# Altium footprint library SMP-MSFD-PCE-1.PcbLib: 1 footprints
Each footprint in its own frame and in the unit in brackets; x right, y up, seen from the top. Pads: shape width x height; smd on the part's side, far side on the other; paste and mask are expansions set on the pad; w line width, h text height; cw(c..) or ccw(c..) is an arc to the next point about the centre after c.
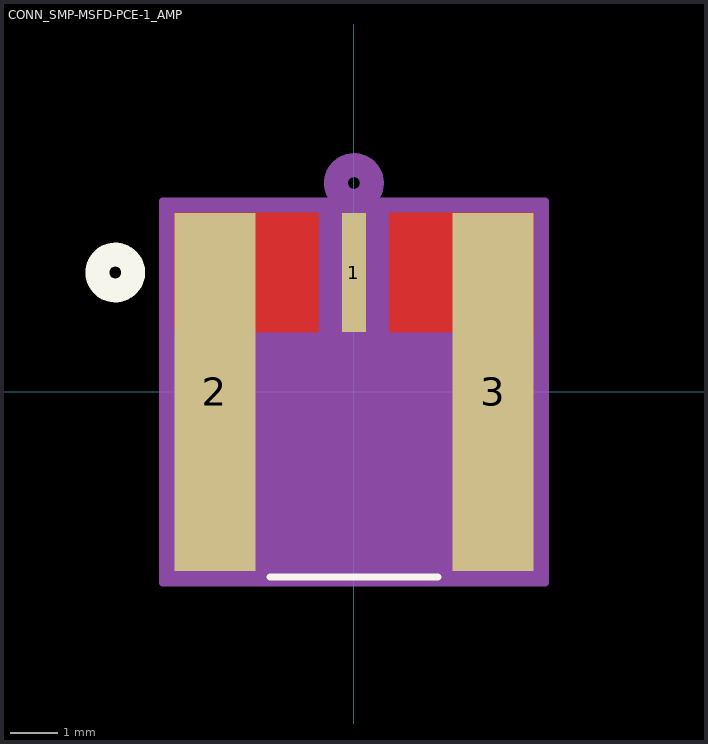
[diagram p0: the footprint, top view; thin cyan lines are the x and y axes]

## CONN_SMP-MSFD-PCE-1_AMP [mil]
pads (3):
  rect 20x100 smd paste+0 mask+0: 1(0,100)
  rect 68x300 smd paste-150 mask-150: 2(-116.5,0) 3(116.5,0)
Top Layer:
  region: 29.5,50 29.5,150 150.5,150 150.5,50
  region: -29.5,50 -29.5,150 -150.5,150 -150.5,50
Top Overlay:
  circle w20: c-200,100 r15
  lines w6: -70.39,-155 70.39,-155
Bottom Overlay:
  circle w20: c-200,100 r15
Top Paste:
  region: 29.5,50 29.5,150 150.5,150 150.5,50
  region: -29.5,50 -29.5,150 -150.5,150 -150.5,50
Top Solder:
  region: 29.5,50 29.5,150 150.5,150 150.5,50
  region: -29.5,50 -29.5,150 -150.5,150 -150.5,50
Mechanical 13:
  circle w20: c0,175 r15
  lines w1: -125,-150 125,-150 125,150 -125,150 -125,-150
Mechanical 15:
  region: 160.5,160 -160.5,160 -160.5,-160 160.5,-160
  lines w6: -160.5,-160 -160.5,160 160.5,160 160.5,-160 -160.5,-160
Multi-Layer:
  lines w1: -82.5,-150 -82.5,50 82.5,50 82.5,-150 -82.5,-150